# EAGLE library part MODULAR-8P8C-2LED (library Jordi)
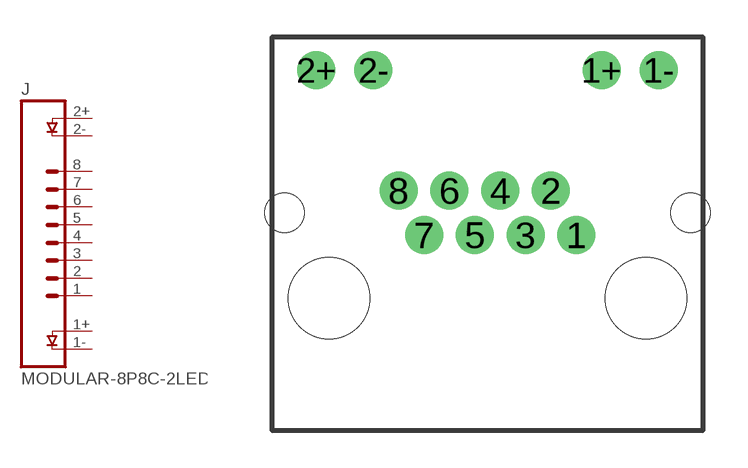
[diagram p24: symbol with the pads of MODULAR-8P8C-PTH-RA-LED; footprint MODULAR-8P8C-PTH-RA-LED]

Designator prefix J

## MODULAR-8P8C-2LEDPTH  [MODULAR-8P8C-PTH-RA-LED]
1  1
1+  1+  pas
1-  1-  pas
2  2
2+  2+  pas
2-  2-  pas
3  3
4  4
5  5
6  6
7  7
8  8

## Footprint MODULAR-8P8C-PTH-RA-LED (pad centres in mm)
Digikey Part <http://www.digikey.com/product-detail/en/2-406549-1/A97715-ND/1122133>
drill 0.889 pad 1.524: 1 3.556,2.54; 1+ 4.572,9.144; 1- 6.858,9.144; 2 2.54,4.318; 2+ -6.858,9.144; 2- -4.572,9.144; 3 1.524,2.54; 4 0.508,4.318; 5 -0.508,2.54; 6 -1.524,4.318; 7 -2.54,2.54; 8 -3.556,4.318
hole 3.251 at -6.35,0
hole 3.251 at 6.35,0
hole 1.575 at 8.128,3.429
hole 1.575 at -8.128,3.429